# EAGLE library part BOARD-CPU-SH3-7706 (library mylib)
CPU BOARD : SH3 7706 (MITSUIWA Version)
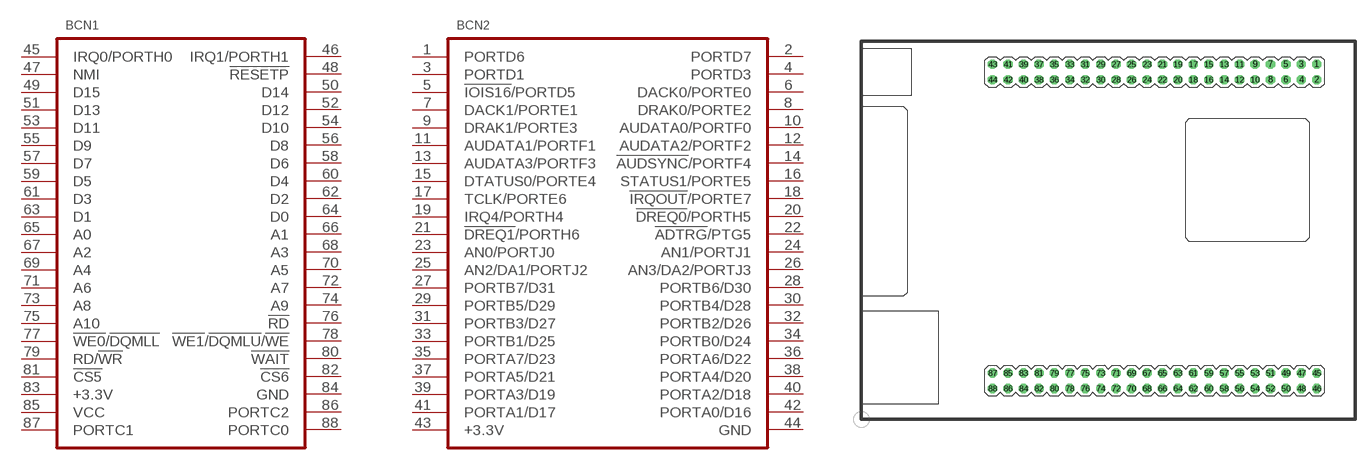
[diagram p65: symbol with the pads of BOARD-CPU-SH3-7706; footprint BOARD-CPU-SH3-7706]

Designator prefix B; gates CN2=BOARD-CPU-SH3-7706-CN2 CN1=BOARD-CPU-SH3-7706-CN1

## BOARD-CPU-SH3-7706  [BOARD-CPU-SH3-7706]
1  CN2:PORTD6
2  CN2:PORTD7
3  CN2:PORTD1
4  CN2:PORTD3
5  CN2:!IOIS16!/PORTD5
6  CN2:DACK0/PORTE0
7  CN2:DACK1/PORTE1
8  CN2:DRAK0/PORTE2
9  CN2:DRAK1/PORTE3
10  CN2:AUDATA0/PORTF0
11  CN2:AUDATA1/PORTF1
12  CN2:AUDATA2/PORTF2
13  CN2:AUDATA3/PORTF3
14  CN2:!AUDSYNC!/PORTF4
15  CN2:DTATUS0/PORTE4
16  CN2:STATUS1/PORTE5
17  CN2:TCLK/PORTE6
18  CN2:!IRQOUT!/PORTE7
19  CN2:IRQ4/PORTH4
20  CN2:!DREQ0!/PORTH5
21  CN2:!DREQ1!/PORTH6
22  CN2:!ADTRG!/PTG5
23  CN2:AN0/PORTJ0
24  CN2:AN1/PORTJ1
25  CN2:AN2/DA1/PORTJ2
26  CN2:AN3/DA2/PORTJ3
27  CN2:PORTB7/D31
28  CN2:PORTB6/D30
29  CN2:PORTB5/D29
30  CN2:PORTB4/D28
31  CN2:PORTB3/D27
32  CN2:PORTB2/D26
33  CN2:PORTB1/D25
34  CN2:PORTB0/D24
35  CN2:PORTA7/D23
36  CN2:PORTA6/D22
37  CN2:PORTA5/D21
38  CN2:PORTA4/D20
39  CN2:PORTA3/D19
40  CN2:PORTA2/D18
41  CN2:PORTA1/D17
42  CN2:PORTA0/D16
43  CN2:+3.3V  pwr
44  CN2:GND  pwr
45  CN1:IRQ0/PORTH0
46  CN1:IRQ1/PORTH1
47  CN1:NMI
48  CN1:!RESETP!
49  CN1:D15
50  CN1:D14
51  CN1:D13
52  CN1:D12
53  CN1:D11
54  CN1:D10
55  CN1:D9
56  CN1:D8
57  CN1:D7
58  CN1:D6
59  CN1:D5
60  CN1:D4
61  CN1:D3
62  CN1:D2
63  CN1:D1
64  CN1:D0
65  CN1:A0
66  CN1:A1
67  CN1:A2
68  CN1:A3
69  CN1:A4
70  CN1:A5
71  CN1:A6
72  CN1:A7
73  CN1:A8
74  CN1:A9
75  CN1:A10
76  CN1:!RD!
77  CN1:!WE0!/!DQMLL!
78  CN1:!WE1!/!DQMLU!/!WE!
79  CN1:RD/!WR!
80  CN1:!WAIT!
81  CN1:!CS5!
82  CN1:!CS6!
83  CN1:+3.3V  pwr
84  CN1:GND  pwr
85  CN1:VCC  pwr
86  CN1:PORTC2
87  CN1:PORTC1
88  CN1:PORTC0

## Footprint BOARD-CPU-SH3-7706 (pad centres in mm)
CPU BOARD SH3 7706 (MITSUIWA Version)
drill 1.016 octagon: 1 74.93,58.42; 2 74.93,55.88; 3 72.39,58.42; 4 72.39,55.88; 5 69.85,58.42; 6 69.85,55.88; 7 67.31,58.42; 8 67.31,55.88; 9 64.77,58.42; 10 64.77,55.88; 11 62.23,58.42; 12 62.23,55.88; 13 59.69,58.42; 14 59.69,55.88; 15 57.15,58.42; 16 57.15,55.88; 17 54.61,58.42; 18 54.61,55.88; 19 52.07,58.42; 20 52.07,55.88; 21 49.53,58.42; 22 49.53,55.88; 23 46.99,58.42; 24 46.99,55.88; 25 44.45,58.42; 26 44.45,55.88; 27 41.91,58.42; 28 41.91,55.88; 29 39.37,58.42; 30 39.37,55.88; 31 36.83,58.42; 32 36.83,55.88; 33 34.29,58.42; 34 34.29,55.88; 35 31.75,58.42; 36 31.75,55.88; 37 29.21,58.42; 38 29.21,55.88; 39 26.67,58.42; 40 26.67,55.88; 41 24.13,58.42; 42 24.13,55.88; 43 21.59,58.42; 44 21.59,55.88; 45 74.93,7.62; 46 74.93,5.08; 47 72.39,7.62; 48 72.39,5.08; 49 69.85,7.62; 50 69.85,5.08; 51 67.31,7.62; 52 67.31,5.08; 53 64.77,7.62; 54 64.77,5.08; 55 62.23,7.62; 56 62.23,5.08; 57 59.69,7.62; 58 59.69,5.08; 59 57.15,7.62; 60 57.15,5.08; 61 54.61,7.62; 62 54.61,5.08; 63 52.07,7.62; 64 52.07,5.08; 65 49.53,7.62; 66 49.53,5.08; 67 46.99,7.62; 68 46.99,5.08; 69 44.45,7.62; 70 44.45,5.08; 71 41.91,7.62; 72 41.91,5.08; 73 39.37,7.62; 74 39.37,5.08; 75 36.83,7.62; 76 36.83,5.08; 77 34.29,7.62; 78 34.29,5.08; 79 31.75,7.62; 80 31.75,5.08; 81 29.21,7.62; 82 29.21,5.08; 83 26.67,7.62; 84 26.67,5.08; 85 24.13,7.62; 86 24.13,5.08; 87 21.59,7.62; 88 21.59,5.08